# EAGLE library part MC1489 (library texas)
QUAD LINE RECEIVER
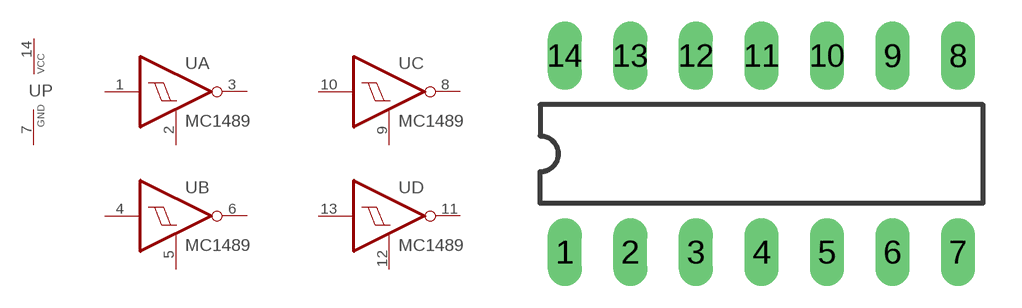
[diagram p71: symbol with the pads of DIL14; footprint DIL14]

Designator prefix U; gates A=MC1489 B=MC1489 C=MC1489 D=MC1489 P=VCC-GND

## MC1489  [DIL14]
1  A:A  in
2  A:CONT  in
3  A:Y  oc
4  B:A  in
5  B:CONT  in
6  B:Y  oc
7  P:GND  pwr
8  C:Y  oc
9  C:CONT  in
10  C:A  in
11  D:Y  oc
12  D:CONT  in
13  D:A  in
14  P:VCC  pwr

## Footprint DIL14 (pad centres in mm)
Dual In Line Package
drill 0.813 long: 1 -7.62,-3.81; 2 -5.08,-3.81; 3 -2.54,-3.81; 4 0,-3.81; 5 2.54,-3.81; 6 5.08,-3.81; 7 7.62,-3.81; 8 7.62,3.81; 9 5.08,3.81; 10 2.54,3.81; 11 0,3.81; 12 -2.54,3.81; 13 -5.08,3.81; 14 -7.62,3.81